# Altium footprint library GCT_USB4110-GF-A.PcbLib: 1 footprints
Each footprint in its own frame and in the unit in brackets; x right, y up, seen from the top. Pads: shape width x height; smd on the part's side, far side on the other; paste and mask are expansions set on the pad; w line width, h text height; cw(c..) or ccw(c..) is an arc to the next point about the centre after c.
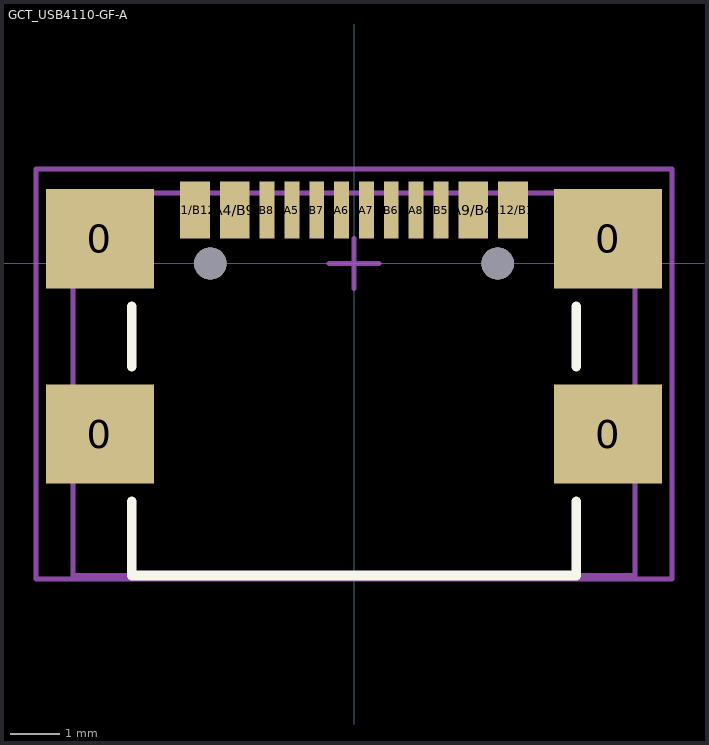
[diagram p0: the footprint, top view; thin cyan lines are the x and y axes]

## GCT_USB4110-GF-A [mm] "GCT USB4110-GF-A"
height 3.26
pads (18):
  rect 2.18x2 smd: 0(-5.11,-3.43) 0(-5.11,0.5) 0(5.11,-3.43) 0(5.11,0.5)
  rect 0.6x1.15 smd: A1/B12(-3.2,1.075) A4/B9(-2.4,1.075) A9/B4(2.4,1.075) A12/B1(3.2,1.075)
  rect 0.3x1.15 smd: A5(-1.25,1.075) A6(-0.25,1.075) A7(0.25,1.075) A8(1.25,1.075) B5(1.75,1.075) B6(0.75,1.075) B7(-0.75,1.075) B8(-1.75,1.075)
  round 0.65 hole 0.65 unplated mask+0.102: ""(-2.89,0) ""(2.89,0)
Top Overlay:
  lines w0.2: -4.47,-4.79 -4.47,-6.28 4.47,-6.28 4.47,-4.79 ; -4.47,-2.07 -4.47,-0.86 ; 4.47,-2.07 4.47,-0.86
Mechanical 13:
  lines w0.1: -5.65,-6.28 -5.65,1.42 5.65,1.42 5.65,-6.28 -5.65,-6.28
Mechanical 15:
  lines w0.1: -0.5,0 0.5,0 ; 0,-0.5 0,0.5 ; -6.4,-6.346 6.4,-6.346 6.4,1.9 -6.4,1.9 -6.4,-6.346
Mechanical 100:
  lines w0.1: -6.35,-6.346 6.35,-6.346
  text "Edge of connector" at -6.344,-5.912 h1
3D body "step_temp.STEP": height 3.26, standoff -0.63, extent -5.65,-6.28 5.65,1.42